# Altium footprint library connectors.PcbLib: 18 footprints (part 1 of 2)
Each footprint in its own frame and in the unit in brackets; x right, y up, seen from the top. Pads: shape width x height; smd on the part's side, far side on the other; paste and mask are expansions set on the pad; w line width, h text height; cw(c..) or ccw(c..) is an arc to the next point about the centre after c.
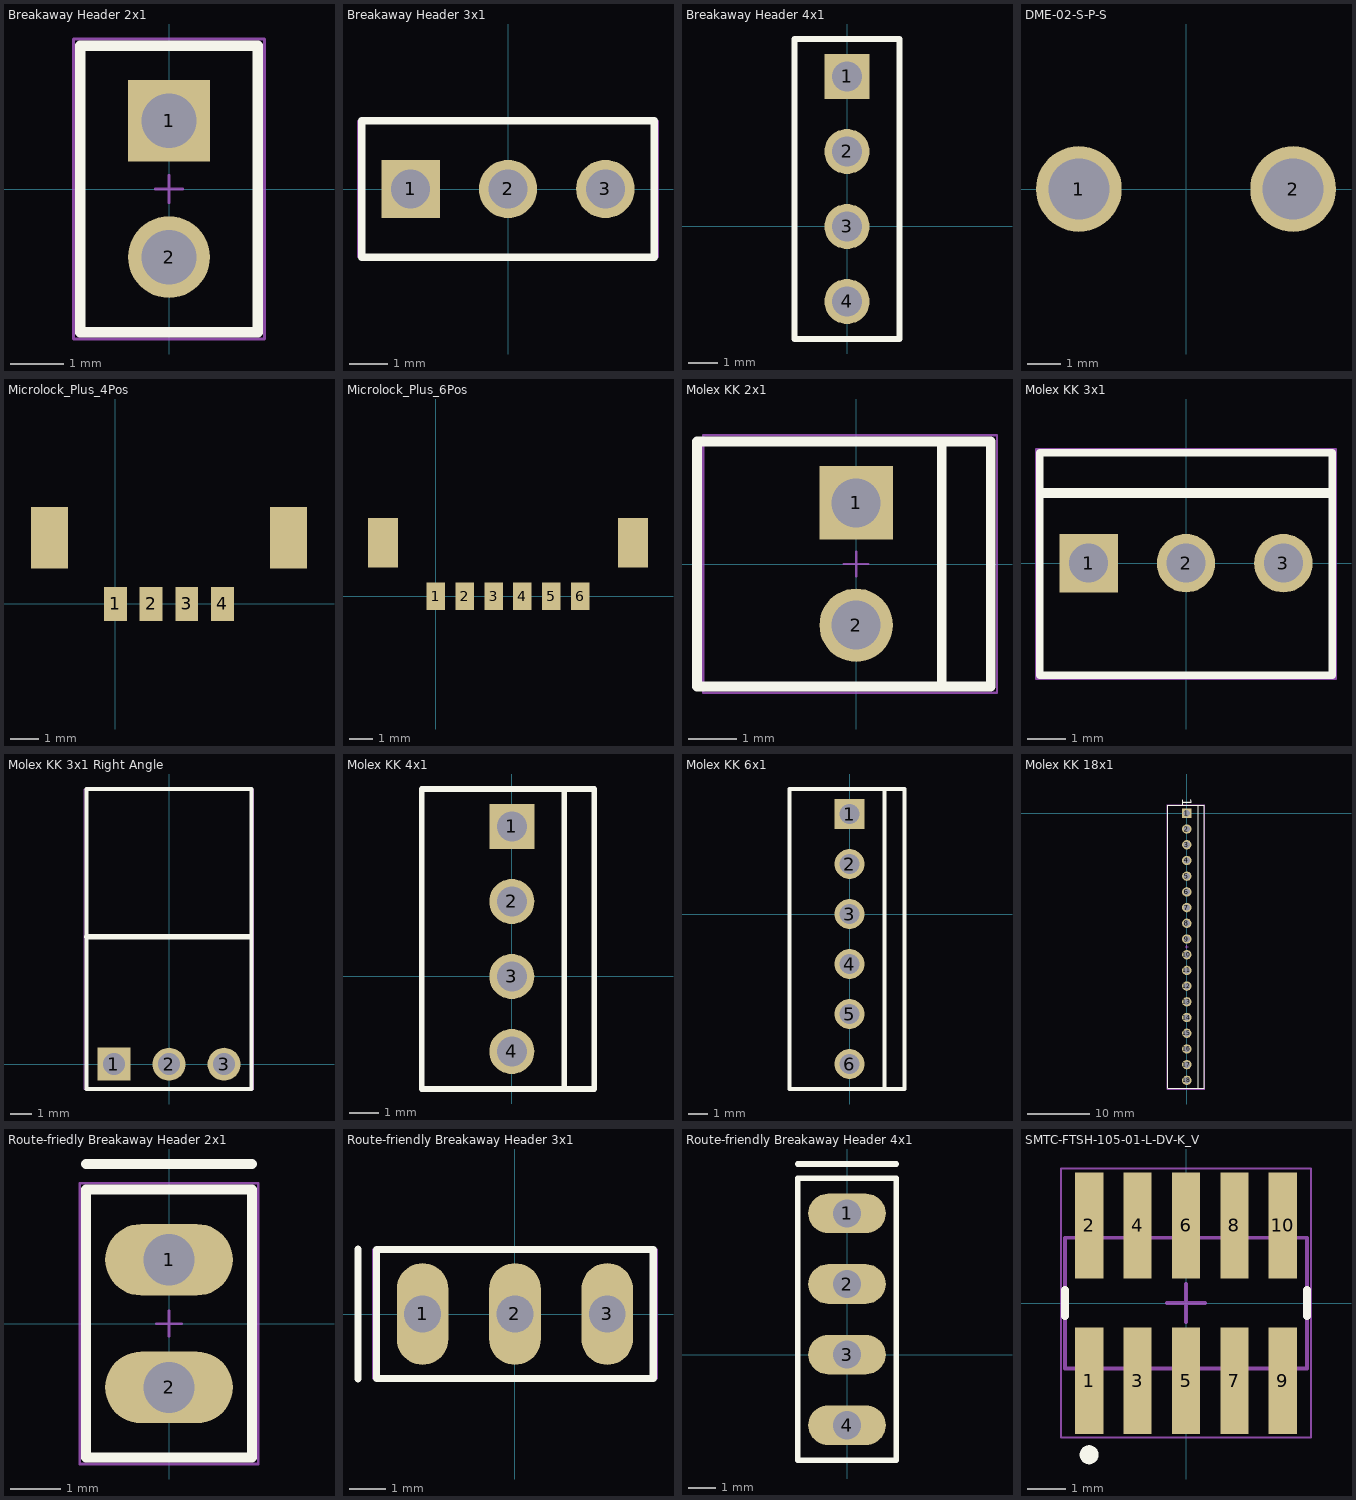
[diagram p0: the footprints below, top view; thin cyan lines are the x and y axes]

## Breakaway Header 2x1 [mil] "100 mil pitch breakaway header"
pads (2):
  rect 60x60 hole 40: 1(0,50)
  round 60 hole 40: 2(0,-50)
Top Overlay:
  lines w7.87: -65,-105 -65,105 65,105 65,-105 -65,-105
Mechanical 15:
  lines w2: -10,0 10,0 ; 0,-10 0,10 ; -70,-110 70,-110 70,110 -70,110 -70,-110

## Breakaway Header 3x1 [mil] "100 mil pitch breakaway header"
height 460.63
pads (3):
  rect 60x60 hole 40 paste+0: 1(-100,0)
  round 60 hole 40 paste+0: 2(0,0) 3(100,0)
Top Overlay:
  lines w7.87: -150,-70 -150,70 150,70 150,-70 -150,-70
Mechanical 13:
  lines w5: -150,-70 150,-70 150,70 -150,70 -150,-70
Mechanical 15:
  lines w1.97: -153.94,-70 153.93,-70 153.93,70 -153.94,70 -153.94,-70
  lines w3.94: -19.68,0 19.68,0 ; 0,-19.68 0,19.68

## Breakaway Header 4x1 [mil] "100 mil pitch breakaway header"
pads (4):
  rect 60x60 hole 40: 1(0,200)
  round 60 hole 40: 2(0,100) 3(0,0) 4(0,-100)
Top Overlay:
  lines w7.87: -70,-150 -70,250 70,250 70,-150 -70,-150
Mechanical 13:
  lines w5: -70,-150 70,-150 70,250 -70,250 -70,-150

## DME-02-S-P-S [mil]
pads (2):
  round 100 hole 71: 1(-125,0) 2(125,0)
via 300,0 diameter 90 hole 71

## Microlock_Plus_4Pos [mm]
pads (6):
  rect 0.8x1.2 smd: 1(0,0) 2(1.25,0) 3(2.5,0) 4(3.75,0)
  rect 1.3x2.15 smd: ""(-2.3,2.325) ""(6.059,2.325)

## Microlock_Plus_6Pos [mm] "Molex P/N 5055670671"
pads (8):
  rect 0.8x1.2 smd: 1(0,0) 2(1.25,0) 3(2.5,0) 4(3.75,0) 5(5,0) 6(6.25,0)
  rect 1.3x2.15 smd: ""(-2.3,2.325) ""(8.55,2.325)
3D body "5055670671.stp": height 3.91, standoff 0.01, extent -2.251,-0.483 8.499,3.717

## Molex KK 2x1 [mil]
pads (2):
  rect 60x60 hole 40: 1(0,50)
  round 60 hole 40: 2(0,-50)
Top Overlay:
  lines w7.87: -120,-100 110,-100 110,100 -130,100 -130,-60 -130,-100 -110,-100 ; 70,-100 70,100
Mechanical 15:
  lines w2: -10,0 10,0 ; 0,-10 0,10 ; -125,-105 115,-105 115,105 -125,105 -125,-105
3D body "User Library-molex kk 0_1in latching 2 way vertical header.step": height 457.5, standoff -142.5, extent -120,-100 110,100

## Molex KK 3x1 [mil] "Header, 3-Leads, Body 7.62x5.8mm, Pitch 2.54mm"
height 460.63
pads (3):
  rect 60x60 hole 40 paste+0: 1(-100,0)
  round 60 hole 40 paste+0: 2(0,0) 3(100,0)
Top Overlay:
  lines w7.87: -150,-114.96 -150,113.38 150,113.38 150,-114.96 -150,-114.96
  lines w10: -149,72 148,72
Mechanical 13:
  lines w3.94: -150,-114.96 150,-114.96 150,113.38 -150,113.38 -150,-114.96
Mechanical 15:
  lines w1.97: -153.94,-118.9 153.93,-118.9 153.93,117.32 -153.94,117.32 -153.94,-118.9
  lines w3.94: -19.68,0 19.68,0 ; 0,-19.68 0,19.68
3D body "022272031.stp": height 461.13, standoff -139.65, extent -150,-114.96 150,113.38

## Molex KK 3x1 Right Angle [mil] "Header, 3-Leads, Body 7.62x5.8mm, Pitch 2.54mm, Right angle connnector"
height 460.63
pads (3):
  rect 60x60 hole 40 paste+0: 1(-100,0)
  round 60 hole 40 paste+0: 2(0,0) 3(100,0)
Top Overlay:
  lines w7.87: -150,-45 -150,500 150,500 150,-45 -150,-45
  lines w10: -149,232 148,232
Mechanical 13:
  lines w3.94: -150,-45 150,-45 150,500 -150,500 -150,-45
Mechanical 15:
  lines w1.97: -153.94,-45 153.93,-45 153.93,500 -153.94,500 -153.94,-45
  lines w3.94: -19.68,0 19.68,0 ; 0,-19.68 0,19.68
3D body "22053031.stp": height 250.5, standoff -140.5, extent -147,-12.5 147,496.5

## Molex KK 4x1 [mil]
pads (4):
  rect 60x60 hole 40: 1(0,200)
  round 60 hole 40: 2(0,100) 3(0,0) 4(0,-100)
Top Overlay:
  lines w7.87: 70,-150 70,250 ; -120,-150 -120,-120 -120,250 110,250 110,-150 -120,-150
3D body "User Library-molex kk 0_1in latching 4 way vertical header.step": height 457.5, standoff -142.5, extent -120,-150 110,250

## Molex KK 6x1 [mil]
pads (6):
  rect 60x60 hole 40: 1(0,200)
  round 60 hole 40: 2(0,100) 3(0,0) 4(0,-100) 5(0,-200) 6(0,-300)
Top Overlay:
  lines w7.87: 70,-350 70,250 ; -120,-350 -120,-120 -120,250 110,250 110,-350 -120,-350
3D body "User Library-molex kk 0_1in latching 6 way vertical header.step": height 457.5, standoff -142.5, extent -120,-350 110,250

## Molex KK 18x1 [mil]
pads (18):
  rect 60x60 hole 40: 1(0,0)
  round 60 hole 40: 2(0,-100) 3(0,-200) 4(0,-300) 5(0,-400) 6(0,-500) 7(0,-600) 8(0,-700) 9(0,-800) 10(0,-900) 11(0,-1000) 12(0,-1100) 13(0,-1200) 14(0,-1300) 15(0,-1400) 16(0,-1500) 17(0,-1600) 18(0,-1700)
Top Overlay:
  lines w7.87: 70,-1750 70,50 ; -120,-1750 110,-1750 110,50 -120,50 -120,-1520 -120,-1750
  text "1" at -30,95 h60
Mechanical 15:
  lines w5: -10,-850 10,-850 ; 0,-860 0,-840 ; -125,-1755 -125,55 115,55 115,-1755 -125,-1755

## Route-friedly Breakaway Header 2x1 [mil] "100 mil pitch breakaway header"
pads (2):
  oval 100x56 / inner round 56 / far side oval 100x56 hole 40: 1(0,50) 2(0,-50)
Top Overlay:
  lines w7.87: -65,-105 65,-105 65,105 -65,105 -65,-105
  lines w8: -65,125 65,125
Bottom Overlay:
  lines w8: -65,125 65,125
Mechanical 15:
  lines w2: -10,0 10,0 ; 0,-10 0,10 ; -70,-110 -70,110 70,110 70,-110 -70,-110
3D body "Pin Header 1x2 TH Pitch 2.54mm.stp": height 373.85, standoff -125.98, extent -49.99,-100.01 50.01,99.99

## Route-friendly Breakaway Header 3x1 [mil] "100 mil pitch breakaway header"
height 460.63
pads (3):
  oval 56x110 hole 40 paste+0: 1(-100,0) 2(0,0) 3(100,0)
Top Overlay:
  lines w7.87: -150,-70 -150,70 150,70 150,-70 -150,-70
  lines w8: -170,-70 -170,70
Mechanical 13:
  lines w5: -150,-70 150,-70 150,70 -150,70 -150,-70
Mechanical 15:
  lines w1.97: -153.94,-70 153.93,-70 153.93,70 -153.94,70 -153.94,-70
  lines w3.94: -19.68,0 19.68,0 ; 0,-19.68 0,19.68
3D body "Pin Header 1x3 TH Pitch 2.54mm.stp": height 373.85, standoff -125.98, extent -150,-49.99 150,50.01

## Route-friendly Breakaway Header 4x1 [mil] "100 mil pitch breakaway header"
pads (4):
  oval 110x56 hole 40: 1(0,200) 2(0,100) 3(0,0) 4(0,-100)
Top Overlay:
  lines w7.87: -70,-150 70,-150 70,250 -70,250 -70,-150
  lines w8: -70,270 70,270
Bottom Overlay:
  lines w8: -70,270 70,270
Mechanical 13:
  lines w5: -70,-150 -70,250 70,250 70,-150 -70,-150
3D body "Pin Header 1x4 TH Pitch 2.54mm.stp": height 373.85, standoff -125.98, extent -49.99,-150.01 50.01,249.99

## SMTC-FTSH-105-01-L-DV-K_V [mm] "CONN, 10-Leads, Body 6.35x3.43mm, Pitch 1.27mm"
height 6.25
pads (10):
  rect 0.74x2.79 smd: 1(-2.54,-2.035) 2(-2.54,2.035) 3(-1.27,-2.035) 4(-1.27,2.035) 5(0,-2.035) 6(0,2.035) 7(1.27,-2.035) 8(1.27,2.035) 9(2.54,-2.035) 10(2.54,2.035)
Top Overlay:
  circle w0.25: c-2.54,-3.98 r0.125
  lines w0.2: -3.175,-0.341 -3.175,0.341 ; 3.175,-0.341 3.175,0.341
Mechanical 13:
  lines w0.1: -3.175,-1.715 3.175,-1.715 3.175,1.715 -3.175,1.715 -3.175,-1.715
Mechanical 15:
  lines w0.05: -3.275,-3.53 3.275,-3.53 3.275,3.53 -3.275,3.53 -3.275,-3.53
  lines w0.1: -0.5,0 0.5,0 ; 0,-0.5 0,0.5
3D body "FTSH-105-01-L-DV-K.stp": height 6.12, standoff 0, extent -3.175,-2.921 3.175,2.921